# EAGLE library part LTC3105 (library RalimTek)
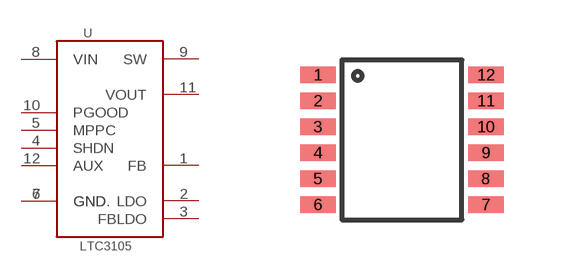
[diagram p3: symbol with the pads of MSOP-12_GND; footprint MSOP-12_GND]

Designator prefix -

## LTC3105  [MSOP-12_GND]
1  FB
2  LDO
3  FBLDO
4  SHDN
5  MPPC
6  GND
7  GND.
8  VIN
9  SW
10  PGOOD
11  VOUT
12  AUX

## Footprint MSOP-12_GND (pad centres in mm)
smd 0.889 x 0.42: 1 -2.1,1.625; 2 -2.1,0.975; 3 -2.1,0.325; 4 -2.1,-0.325; 5 -2.1,-0.975; 6 -2.1,-1.625; 7 2.1,-1.625; 8 2.1,-0.975; 9 2.1,-0.325; 10 2.1,0.325; 11 2.1,0.975; 12 2.1,1.625